# EAGLE library part PINHEAD-11 (library Header)
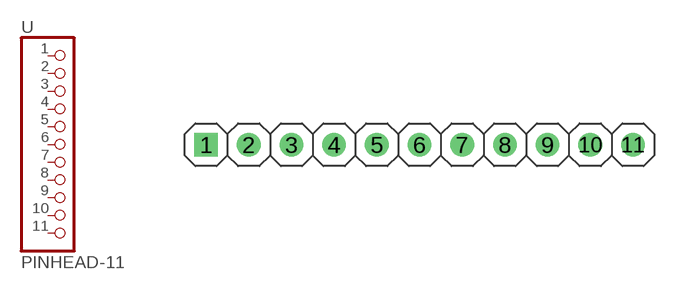
[diagram p5: symbol with the pads of PINHEAD-11; footprint PINHEAD-11]

Designator prefix -

## PINHEAD-11  [PINHEAD-11]
1  1  pas
2  2  pas
3  3  pas
4  4  pas
5  5  pas
6  6  pas
7  7  pas
8  8  pas
9  9  pas
10  10  pas
11  11  pas

## Footprint PINHEAD-11 (pad centres in mm)
drill 0.9 square: 1 0,0
drill 0.9: 2 2.54,0; 3 5.08,0; 4 7.62,0; 5 10.16,0; 6 12.7,0; 7 15.24,0; 8 17.78,0; 9 20.32,0; 10 22.86,0; 11 25.4,0